# EAGLE library part L293E (library ICs)
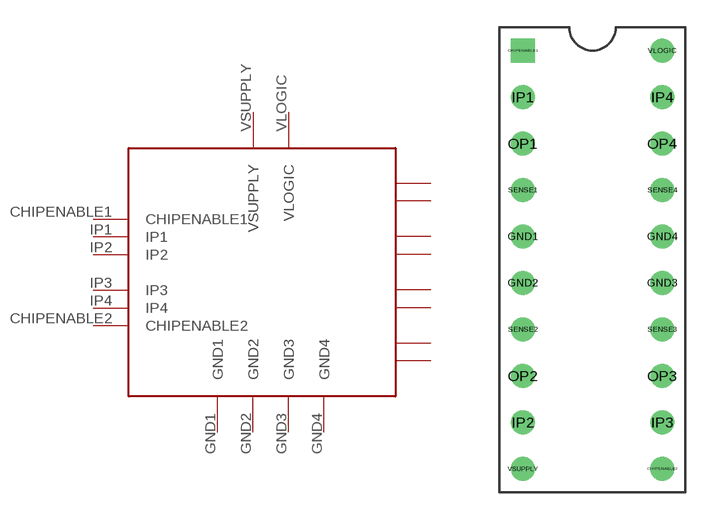
[diagram p0: symbol with the pads of L239E; footprint L239E]

Designator prefix -

## L293E  [L239E]
CHIPENABLE1  CHIPENABLE1  in
CHIPENABLE2  CHIPENABLE2  in
GND1  GND1  pwr
GND2  GND2  pwr
GND3  GND3  pwr
GND4  GND4  pwr
IP1  IP1  in
IP2  IP2  in
IP3  IP3  in
IP4  IP4  in
OP1  OP1  out
OP2  OP2  out
OP3  OP3  out
OP4  OP4  out
SENSE1  SENSE1  in
SENSE2  SENSE2  in
SENSE3  SENSE3  in
SENSE4  SENSE4  in
VLOGIC  VLOGIC  pwr
VSUPPLY  VSUPPLY  pwr

## Footprint L239E (pad centres in mm)
drill 0.8 square: CHIPENABLE1 0,-1.27
drill 0.8: CHIPENABLE2 7.62,-24.13; GND1 0,-11.43; GND2 0,-13.97; GND3 7.62,-13.97; GND4 7.62,-11.43; IP1 0,-3.81; IP2 0,-21.59; IP3 7.62,-21.59; IP4 7.62,-3.81; OP1 0,-6.35; OP2 0,-19.05; OP3 7.62,-19.05; OP4 7.62,-6.35; SENSE1 0,-8.89; SENSE2 0,-16.51; SENSE3 7.62,-16.51; SENSE4 7.62,-8.89; VLOGIC 7.62,-1.27; VSUPPLY 0,-24.13